# Altium footprint library XDCR_CH201-00ABR.PcbLib: 1 footprints
Each footprint in its own frame and in the unit in brackets; x right, y up, seen from the top. Pads: shape width x height; smd on the part's side, far side on the other; paste and mask are expansions set on the pad; w line width, h text height; cw(c..) or ccw(c..) is an arc to the next point about the centre after c.
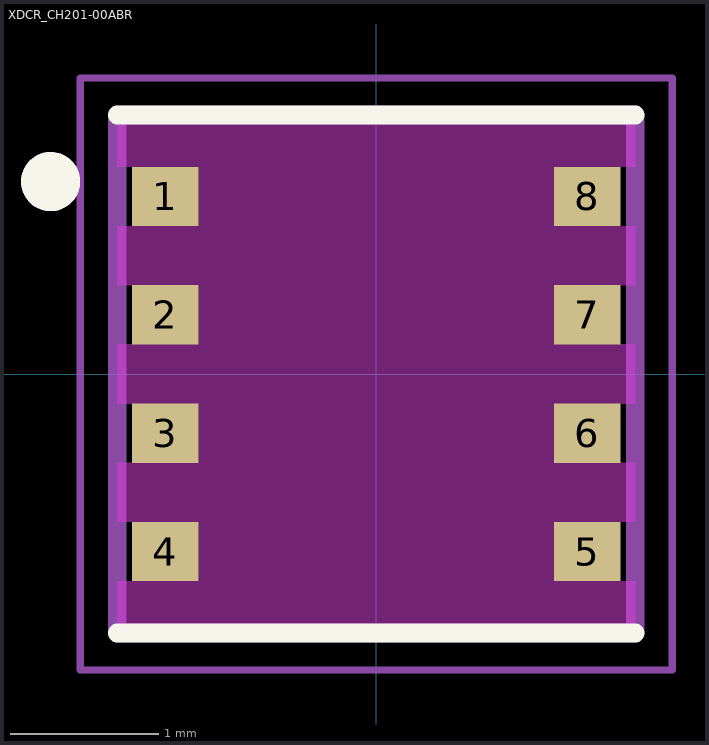
[diagram p0: the footprint, top view; thin cyan lines are the x and y axes]

## XDCR_CH201-00ABR [mm]
pads (8):
  rect 0.45x0.4 smd paste-1 mask+0: 1(-1.425,1.2) 2(-1.425,0.4) 3(-1.425,-0.4) 4(-1.425,-1.2) 5(1.425,-1.2) 6(1.425,-0.4) 7(1.425,0.4) 8(1.425,1.2)
Top Overlay:
  circle w0.2: c-2.2,1.3 r0.1
  lines w0.127: -1.75,-1.75 1.75,-1.75 ; -1.75,1.75 1.75,1.75
Top Paste:
  region: -1.225,0.22 -1.625,0.22 -1.625,0.58 -1.225,0.58
  region: -1.225,-0.58 -1.625,-0.58 -1.625,-0.22 -1.225,-0.22
  region: -1.225,-1.38 -1.625,-1.38 -1.625,-1.02 -1.225,-1.02
  region: -1.225,1.02 -1.625,1.02 -1.625,1.38 -1.225,1.38
  region: 1.625,0.22 1.225,0.22 1.225,0.58 1.625,0.58
  region: 1.625,-0.58 1.225,-0.58 1.225,-0.22 1.625,-0.22
  region: 1.625,-1.38 1.225,-1.38 1.225,-1.02 1.625,-1.02
  region: 1.625,1.02 1.225,1.02 1.225,1.38 1.625,1.38
Top Solder:
  region: -1.15,0.15 -1.7,0.15 -1.7,0.65 -1.15,0.65
  region: -1.15,-0.65 -1.7,-0.65 -1.7,-0.15 -1.15,-0.15
  region: -1.15,0.95 -1.7,0.95 -1.7,1.45 -1.15,1.45
  region: -1.15,-1.45 -1.7,-1.45 -1.7,-0.95 -1.15,-0.95
  region: 1.7,0.15 1.15,0.15 1.15,0.65 1.7,0.65
  region: 1.7,-0.65 1.15,-0.65 1.15,-0.15 1.7,-0.15
  region: 1.7,0.95 1.15,0.95 1.15,1.45 1.7,1.45
  region: 1.7,-1.45 1.15,-1.45 1.15,-0.95 1.7,-0.95
Keep-Out Layer:
  region: 1.75,1.4 1.2,1.4 1.2,1 1.75,1 1.75,0.6 1.2,0.6 1.2,0.2 1.75,0.2 1.75,-0.2 1.2,-0.2 1.2,-0.6 1.75,-0.6 1.75,-1 1.2,-1 1.2,-1.4 1.75,-1.4 1.75,-1.75 -1.75,-1.75 -1.75,-1.4 -1.2,-1.4 -1.2,-1 -1.75,-1 -1.75,-0.6 -1.2,-0.6 -1.2,-0.2 -1.75,-0.2 -1.75,0.2 -1.2,0.2 -1.2,0.6 -1.75,0.6 -1.75,1 -1.2,1 -1.2,1.4 -1.75,1.4 -1.75,1.75 1.75,1.75
  region: 1.75,1.4 1.2,1.4 1.2,1 1.75,1 1.75,0.6 1.2,0.6 1.2,0.2 1.75,0.2 1.75,-0.2 1.2,-0.2 1.2,-0.6 1.75,-0.6 1.75,-1 1.2,-1 1.2,-1.4 1.75,-1.4 1.75,-1.75 -1.75,-1.75 -1.75,-1.4 -1.2,-1.4 -1.2,-1 -1.75,-1 -1.75,-0.6 -1.2,-0.6 -1.2,-0.2 -1.75,-0.2 -1.75,0.2 -1.2,0.2 -1.2,0.6 -1.75,0.6 -1.75,1 -1.2,1 -1.2,1.4 -1.75,1.4 -1.75,1.75 1.75,1.75
Mechanical 13:
  circle w0.2: c-2.2,1.3 r0.1
  lines w0.127: -1.75,-1.75 1.75,-1.75 1.75,1.75 -1.75,1.75 -1.75,-1.75
Mechanical 15:
  lines w0.05: -2,-2 2,-2 2,2 -2,2 -2,-2